# Altium schematic symbol library AXT526124.SchLib: 1 symbol
Pins are listed as number, name and electrical type; pins without a type are passive.

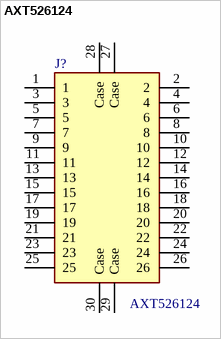
[diagram p0: symbol AXT526124]

## AXT526124
designator J?
Platine-zu-Platine & Mezzanine-Steckverbinder CONN SOCKET 26 POS 0.4mm; Manufacturer_Name: Panasonic; Geometry.Height: 1mm; Mouser Part Number: 769-AXT526124; Mouser Price/Stock: https://www.mouser.co.uk/ProductDetail/Panasonic-Industrial-Devices/AXT526124?qs=2rFUEsTwVNy0%2FSY83ks8NA%3D%3D; Manufacturer_Part_Number: AXT526124; Datasheet Link: https://www3.panasonic.biz/ac/e/search_num/index.jsp?c=detail&part_no=AXT526124; Supplier 1: Mouser; Supplier Part Number 1: 769-AXT526124
footprint AXT526124
pins: 1, 2, 3, 4, 5, 6, 7, 8, 9, 10, 11, 12, 13, 14, 15, 16, 17, 18, 19, 20, 21, 22, 23, 24, 25, 26, 27 Case, 28 Case, 29 Case, 30 Case